# EAGLE library part 5747844-? (library volks73-TEConnectivity)
9-Pin D-Sub miniature (DB9) Female Connector Documentation Drawing <http://www.te.com/commerce/DocumentDelivery/DDEController?Action=srchrtrv&DocNm=5747844&DocType=Customer+Drawing&DocLang=English> Notes The 5747844-2 has 0.125" through holes instead of #4-40 threaded inserts, or screwlocks, for mounting cables to the connector.
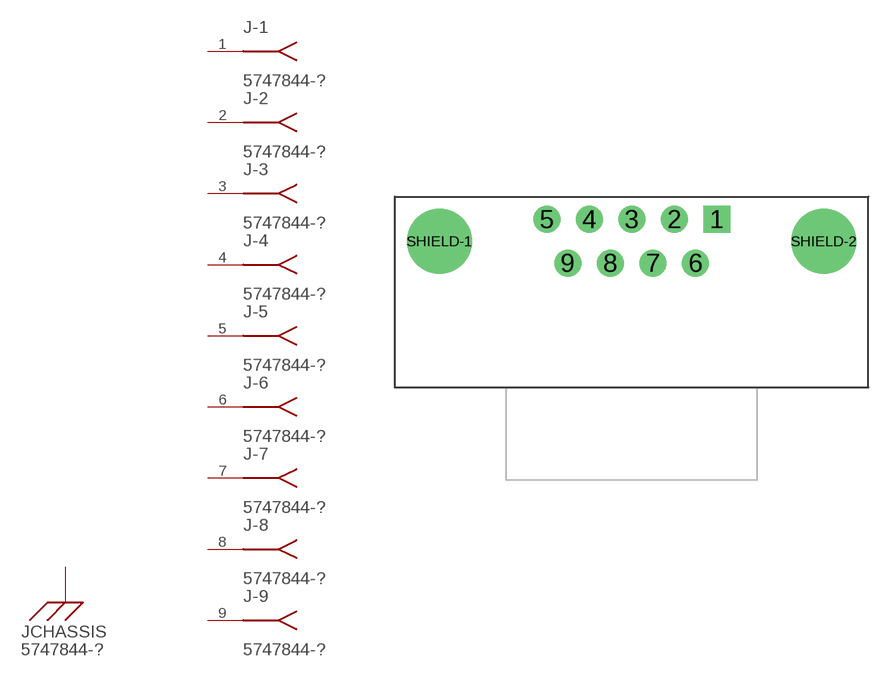
[diagram p2: symbol with the pads of DB9_FEMALE_RIGHT-ANGLE; footprint DB9_FEMALE_RIGHT-ANGLE]

Designator prefix J; gates -1=FEMALE_CONNECTOR -2=FEMALE_CONNECTOR -3=FEMALE_CONNECTOR -4=FEMALE_CONNECTOR -5=FEMALE_CONNECTOR -6=FEMALE_CONNECTOR -7=FEMALE_CONNECTOR -8=FEMALE_CONNECTOR -9=FEMALE_CONNECTOR CHASSIS=CHASSIS

## 5747844-2 (CATEGORY: Connectors, Interconnects; COLOR: Black; CONNECTOR_STYLE: D-Sub; CONNETOR_TYPE: Receptacle, Female Sockets; CONTACT_FINISH: Gold; CONTACT_FINISH_THICKNESS: 30µin (0.76µm); CONTACT_TYPE: Signal; CURRENT_RATING: 6A; DESCRIPTION: 9 Position D-Sub Receptacle, Female Sockets Connector, Through Hole, Right Angle Solder; DOCUMENTATION_LINK: <a href="http://www.te.com/commerce/DocumentDelivery/DDEController?Action=srchrtrv&DocNm=5747844&DocType=Customer+Drawing&DocLang=English">Drawing</a>; DOCUMENTATION_URL: http://www.te.com/commerce/DocumentDelivery/DDEController?Action=srchrtrv&DocNm=5747844&DocType=Customer+Drawing&DocLang=English; FAMILY: D-Sub Connectors; FEATURES: Board Lock, Ground Strap; FLANGE_FEATURE: Housing/Shell (Unthreaded); HOUSTING_MATERIAL: Thermoplastic; INGRESS_PROTECTION: -; MANUFACTURER: TE Connectivity AMP Connectors; MOUNTING_TYPE: Through Hole, Right Angle; NUMBER_OF_POSITIONS: 9; NUMBER_OF_ROWS: 2; OPERATING_TEMPERATURE: -55°C ~ 105°C; PART_NUMBER: 5747844-2; SERIES: AMPLIMITE HD-20; SHELL_MATERIAL-FINISH: Steel, Tin Plated; SHELL_SIZE-CONNECTOR_LAYOUT: 1 (DE, E); SUPPLIER_ITEM_LINK: <a href="http://www.digikey.com/product-detail/en/5747844-2/A32115-ND/808670">Details</a>; SUPPLIER_ITEM_NUMBER: A32115-ND; SUPPLIER_ITEM_URL: http://www.digikey.com/product-detail/en/5747844-2/A32115-ND/808670; SUPPLIER_LINK: <a href="http://www.digikey.com">Home Page</a>; SUPPLIER_NAME: Digi-Key; SUPPLIER_URL: http://www.digikey.com; TERMINATION: Solder; VOLTAGE_RATING: 125V)  [DB9_FEMALE_RIGHT-ANGLE]
1  -1:P$1
2  -2:P$1
3  -3:P$1
4  -4:P$1
5  -5:P$1
6  -6:P$1
7  -7:P$1
8  -8:P$1
9  -9:P$1
SHIELD-1  CHASSIS:CHASSIS
SHIELD-2  CHASSIS:CHASSIS

## Footprint DB9_FEMALE_RIGHT-ANGLE (pad centres in mm)
9-Pin D-sub Miniature (DB9) Board Mount Connector
drill 1.17 square: 1 5.54,1.42
drill 1.17: 2 2.77,1.42; 3 0,1.42; 4 -2.745,1.42; 5 -5.515,1.42; 6 4.155,-1.42; 7 1.385,-1.42; 8 -1.385,-1.42; 9 -4.155,-1.42
drill 3.2: SHIELD-1 -12.495,0; SHIELD-2 12.495,0